# EAGLE library part MO8 (library Gibbot v4)
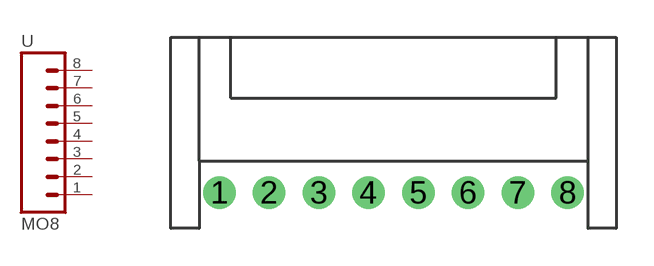
[diagram p18: symbol with the pads of JST-8-PH-TH; footprint JST-8-PH-TH]

Designator prefix -

## MO8JST-PH-TH  [JST-8-PH-TH]
1  1  pas
2  2  pas
3  3  pas
4  4  pas
5  5  pas
6  6  pas
7  7  pas
8  8  pas

## Footprint JST-8-PH-TH (pad centres in mm)
drill 0.8 round: 1 -7,-6.35; 2 -5,-6.35; 3 -3,-6.35; 4 -1,-6.35; 5 1,-6.35; 6 3,-6.35; 7 5,-6.35; 8 7,-6.35